# EAGLE library part ARDUINO-PRO_MICRO (library p.peter-ics)
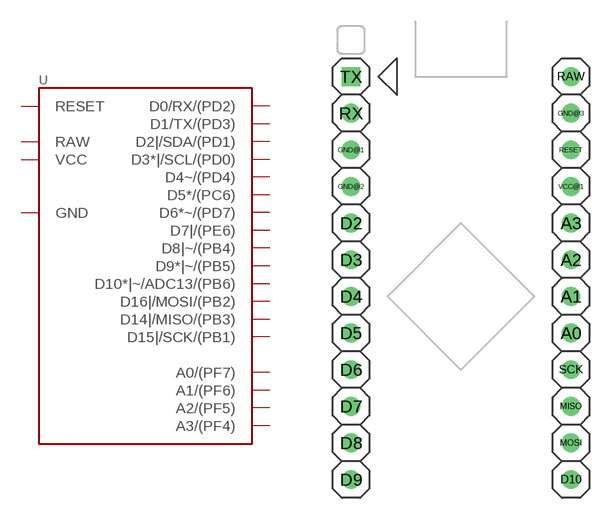
[diagram p14: symbol with the pads of ARDUINO-PRO_MICRO; footprint ARDUINO-PRO_MICRO]

Designator prefix -

## ARDUINO-PRO_MICRO  [ARDUINO-PRO_MICRO]
A0  A0/(PF7)
A1  A1/(PF6)
A2  A2/(PF5)
A3  A3/(PF4)
D2  D2|/SDA/(PD1)
D3  D3*|/SCL/(PD0)
D4  D4~/(PD4)
D5  D5*/(PC6)
D6  D6*~/(PD7)
D7  D7|/(PE6)
D8  D8|~/(PB4)
D9  D9*|~/(PB5)
D10  D10*|~/ADC13/(PB6)
GND@1  GND
GND@2  GND
GND@3  GND
MISO  D14|/MISO/(PB3)
MOSI  D16|/MOSI/(PB2)
RAW  RAW
RESET  RESET
RX  D0/RX/(PD2)
SCK  D15|/SCK/(PB1)
TX  D1/TX/(PD3)
VCC@1  VCC

## Footprint ARDUINO-PRO_MICRO (pad centres in mm)
drill 0.8: A0 7.62,-5.08; A1 7.62,-2.54; A2 7.62,0; A3 7.62,2.54; D2 -7.62,2.54; D3 -7.62,0; D4 -7.62,-2.54; D5 -7.62,-5.08; D6 -7.62,-7.62; D7 -7.62,-10.16; D8 -7.62,-12.7; D9 -7.62,-15.24; D10 7.62,-15.24; GND@1 -7.62,7.62; GND@2 -7.62,5.08; GND@3 7.62,10.16; MISO 7.62,-10.16; MOSI 7.62,-12.7; RAW 7.62,12.7; RESET 7.62,7.62; RX -7.62,10.16; SCK 7.62,-7.62; VCC@1 7.62,5.08
drill 0.8 square: TX -7.62,12.7